# Altium footprint library LIB.PcbLib: 10 footprints
Each footprint in its own frame and in the unit in brackets; x right, y up, seen from the top. Pads: shape width x height; smd on the part's side, far side on the other; paste and mask are expansions set on the pad; w line width, h text height; cw(c..) or ccw(c..) is an arc to the next point about the centre after c.
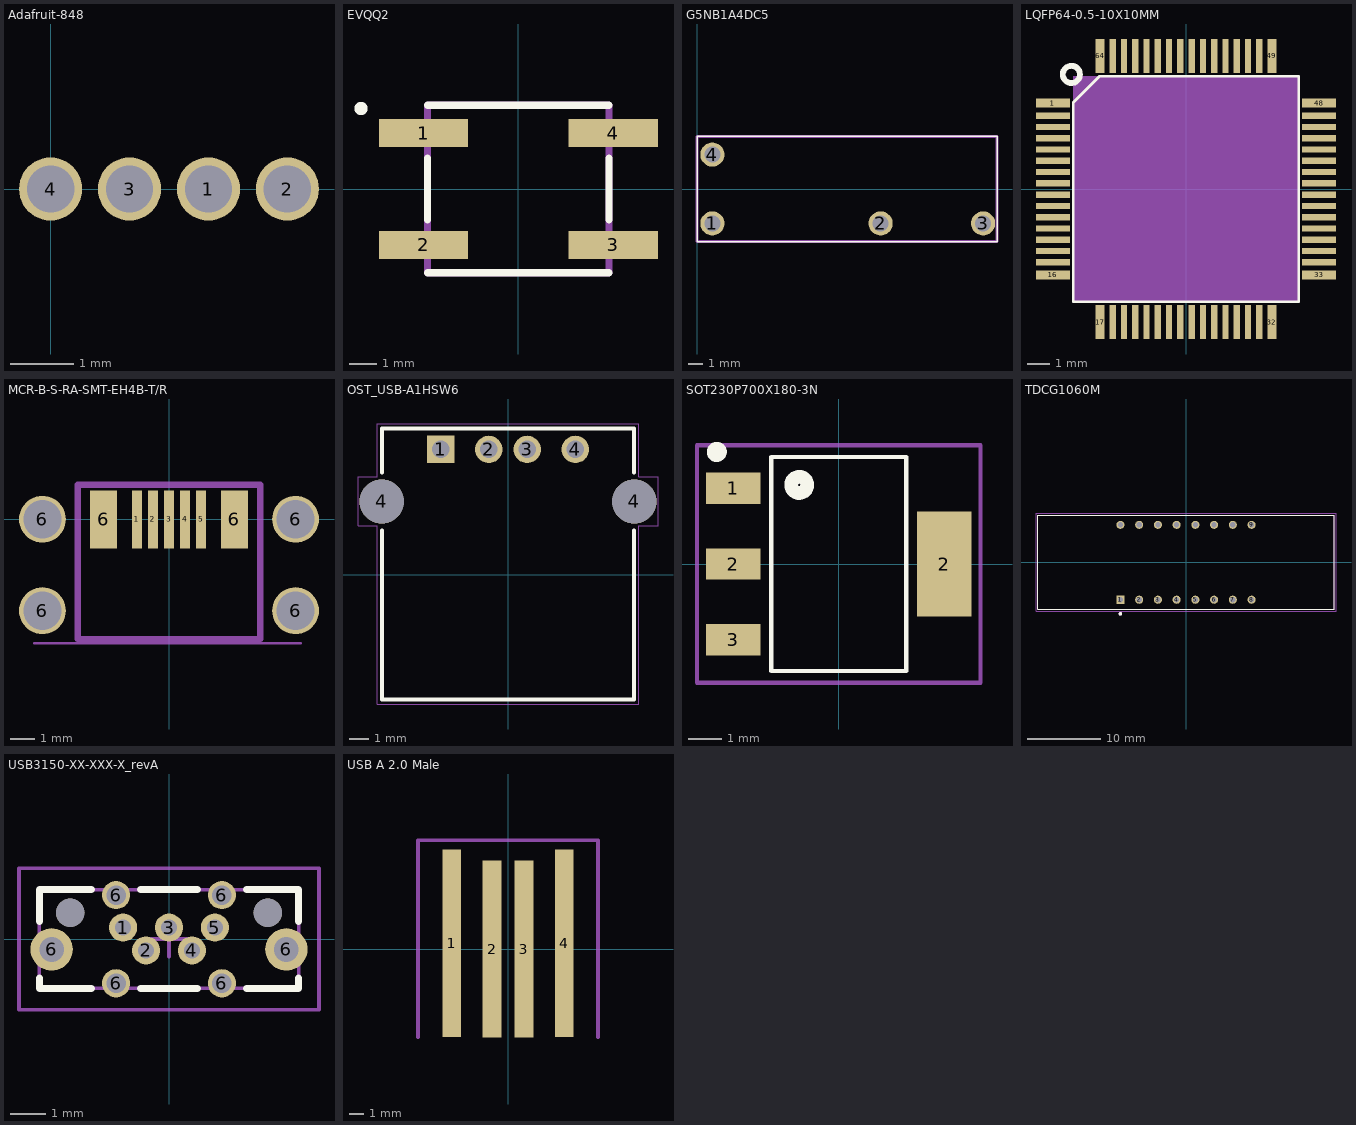
[diagram p0: the footprints below, top view; thin cyan lines are the x and y axes]

## Adafruit-848 [mm]
pads (4):
  round 1 hole 0.75: 1(2.5,0) 2(3.75,0) 3(1.25,0) 4(0,0)

## EVQQ2 [mm]
pads (4):
  rect 3.2x1 smd: 1(-3.4,2) 2(-3.4,-2) 3(3.4,-2) 4(3.4,2)
Top Overlay:
  circle w0.254: c-5.636,2.883 r0.111
  lines w0.254: -3.25,-3 3.25,-3 ; -3.25,-1.1 -3.25,1.1 ; -3.25,3 3.25,3 ; 3.25,-1.1 3.25,1.1
Mechanical 15:
  lines w0.254: -3.25,-3 3.25,-3 3.25,3 -3.25,3 -3.25,-3

## G5NB1A4DC5 [mm]
pads (4):
  round 1.65 hole 1.1: 1(1.05,-2.35) 2(12.55,-2.35) 3(19.55,-2.35) 4(1.05,2.35)
Top Overlay:
  lines w0.1: 0,-3.6 0,3.6 20.5,3.6 20.5,-3.6 0,-3.6
Mechanical 15:
  lines w0.2: 0,-3.6 0,3.6 20.5,3.6 20.5,-3.6 0,-3.6
3D body "G5NB-1A-E-DC5.stp": height 15, standoff -5, extent 0.037,-3.644 20.537,3.556

## LQFP64-0.5-10X10MM [mm]
pads (64):
  rect 1.5x0.4 smd: 1(-5.9,3.81) 16(-5.9,-3.81) 33(5.9,-3.81) 48(5.9,3.81)
  rect 1.5x0.28 smd: 2(-5.9,3.25) 3(-5.9,2.75) 4(-5.9,2.25) 5(-5.9,1.75) 6(-5.9,1.25) 7(-5.9,0.75) 8(-5.9,0.25) 9(-5.9,-0.25) 10(-5.9,-0.75) 11(-5.9,-1.25) 12(-5.9,-1.75) 13(-5.9,-2.25) 14(-5.9,-2.75) 15(-5.9,-3.25) 34(5.9,-3.25) 35(5.9,-2.75) 36(5.9,-2.25) 37(5.9,-1.75) 38(5.9,-1.25) 39(5.9,-0.75) 40(5.9,-0.25) 41(5.9,0.25) 42(5.9,0.75) 43(5.9,1.25) 44(5.9,1.75) 45(5.9,2.25) 46(5.9,2.75) 47(5.9,3.25)
  rect 0.4x1.5 smd: 17(-3.81,-5.9) 32(3.81,-5.9) 49(3.81,5.9) 64(-3.81,5.9)
  rect 0.28x1.5 smd: 18(-3.25,-5.9) 19(-2.75,-5.9) 20(-2.25,-5.9) 21(-1.75,-5.9) 22(-1.25,-5.9) 23(-0.75,-5.9) 24(-0.25,-5.9) 25(0.25,-5.9) 26(0.75,-5.9) 27(1.25,-5.9) 28(1.75,-5.9) 29(2.25,-5.9) 30(2.75,-5.9) 31(3.25,-5.9) 50(3.25,5.9) 51(2.75,5.9) 52(2.25,5.9) 53(1.75,5.9) 54(1.25,5.9) 55(0.75,5.9) 56(0.25,5.9) 57(-0.25,5.9) 58(-0.75,5.9) 59(-1.25,5.9) 60(-1.75,5.9) 61(-2.25,5.9) 62(-2.75,5.9) 63(-3.25,5.9)
Top Overlay:
  circle w0.254: c-5.08,5.08 r0.381
  lines w0.127: -5,-5 5,-5 5,5 -3.842,5 -5,3.842 -5,-5
Mechanical 15:
  region: 5,-5.003 -5.003,-5.003 -5.003,5 5,5
3D body "STM32F446RET6--3DModel-STEP-56544.STEP": height 1.56, standoff -0.04, extent -6,-6 6,6

## MCR-B-S-RA-SMT-EH4B-T/R [mm]
pads (11):
  rect 0.4x2.35 smd: 1(-1.3,0) 2(-0.65,0) 3(0,0) 4(0.65,0) 5(1.3,0)
  round 1.9 hole 1.55: 6(-5.125,-3.7) 6(-5.125,0) 6(5.125,-3.7) 6(5.125,0)
  rect 1.1x2.35 smd: 6(-2.65,0) 6(2.65,0)
Mechanical 1:
  lines w0.1: -5.461,-5.02 5.334,-5.02
  lines w0.254: -3.7,-4.853 -3.7,1.397 3.7,1.397 3.7,-4.853 -3.7,-4.853

## OST_USB-A1HSW6 [mm]
pads (6):
  rect 1.428x1.428 hole 0.92: 1(-3.5,6.51)
  round 1.428 hole 0.92: 2(-1,6.51) 3(1,6.51) 4(3.5,6.51)
  round 2.3 hole 2.3 unplated: 4(-6.57,3.8) 4(6.57,3.8)
Top Overlay:
  lines w0.2: -6.55,2.3 -6.55,-6.5 6.55,-6.5 6.55,2.3 ; -6.55,5.3 -6.55,7.6 6.55,7.6 6.55,5.3
Mechanical 15:
  lines w0.05: -7.8,2.55 -7.8,5.1 -6.8,5.1 -6.8,7.85 6.8,7.85 6.8,5.1 7.8,5.1 7.8,2.55 6.8,2.55 6.8,-6.75 -6.8,-6.75 -6.8,2.55 -7.8,2.55

## SOT230P700X180-3N [mm]
pads (4):
  rect 1.65x0.95 smd: 1(-3.2,2.3) 2(-3.2,0) 3(-3.2,-2.3)
  rect 1.65x3.2 smd: 2(3.2,0)
Top Overlay:
  circle w0.127: c-1.2,2.4 r0.1
  circle w0.406: c-1.2,2.4 r0.25
  circle w0.406: c-3.7,3.4 r0.1
  lines w0.127: -2.05,-3.25 2.05,-3.25 2.05,3.25 -2.05,3.25 -2.05,-3.25
Mechanical 15:
  lines w0.127: -4.3,-3.6 -4.3,3.6 4.3,3.6 4.3,-3.6 -4.3,-3.6

## TDCG1060M [mm]
pads (16):
  rect 1.1x1.1 hole 0.7: 1(-8.89,-5.08)
  round 1.1 hole 0.7: 2(-6.35,-5.08) 3(-3.81,-5.08) 4(-1.27,-5.08) 5(1.27,-5.08) 6(3.81,-5.08) 7(6.35,-5.08) 8(8.89,-5.08) 9(8.89,5.08) 10(6.35,5.08) 11(3.81,5.08) 12(1.27,5.08) 13(-1.27,5.08) 14(-3.81,5.08) 15(-6.35,5.08) 16(-8.89,5.08)
Top Overlay:
  circle w0.24: c-8.9,-7 r0.12
  lines w0.127: -20.1,-6.4 20.1,-6.4 20.1,6.4 -20.1,6.4 -20.1,-6.4
Mechanical 4:
  circle w0.24: c-8.9,-7 r0.12
  circle w0.24: c-8.9,-7 r0.12
  lines w0.127: -20.1,-6.4 20.1,-6.4 ; -20.1,-6.4 -20.1,6.4 ; -20.1,-6.4 20.1,-6.4 ; -20.1,-6.4 -20.1,6.4 ; -20.1,6.4 20.1,6.4 ; -20.1,6.4 20.1,6.4 ; 20.1,-6.4 20.1,6.4 ; 20.1,-6.4 20.1,6.4
Mechanical 16:
  lines w0.05: -20.35,-6.65 -20.35,6.65 20.35,6.65 20.35,-6.65 -20.35,-6.65
3D body "TDCG1060M--3DModel-STEP-56544.STEP": height 7, standoff -3.5, extent -20.1,-6.4 20.1,6.4

## USB3150-XX-XXX-X_revA [mm] "Micro USB Plug, Type B, Through-Hole, Vertical,  with Shell Stakes, with Locating Pegs"
height 7.13
pads (13):
  round 0.8 hole 0.45: 1(-1.3,0.325) 2(-0.65,-0.325) 3(0,0.325) 4(0.65,-0.325) 5(1.3,0.325)
  round 1.2 hole 0.7: 6(-3.325,-0.295) 6(3.325,-0.295)
  round 0.8 hole 0.55: 6(-1.5,-1.255) 6(-1.5,1.245) 6(1.5,-1.255) 6(1.5,1.245)
  round 0.8 hole 0.8 unplated: ""(-2.8,0.745) ""(2.8,0.745)
Top Overlay:
  lines w0.2: -3.675,-1.1 -3.675,-1.4 -2.2,-1.4 ; -3.675,0.5 -3.675,1.4 -2.2,1.4 ; -0.8,-1.4 0.8,-1.4 ; -0.8,1.4 0.8,1.4 ; 2.2,-1.4 3.675,-1.4 3.675,-1.1 ; 2.2,1.4 3.675,1.4 3.675,0.5
Mechanical 13:
  lines w0.1: -3.675,-1.4 3.675,-1.4 3.675,1.4 -3.675,1.4 -3.675,-1.4
Mechanical 15:
  lines w0.1: -0.5,0 0.5,0 ; 0,-0.5 0,0.5 ; -4.25,-2 4.25,-2 4.25,2 -4.25,2 -4.25,-2
3D body "usb3150-30-130-x_reva.step": height 7.19, standoff -1.24, extent -3.675,-1.4 3.675,1.4

## USB A 2.0 Male [mil]
pads (4):
  rect 50x500 smd: 1(-150,15) 4(150,15)
  rect 50x472.44 smd: 2(-42.5,0) 3(42.5,0)
Mechanical 1:
  lines w10: -240,-235 -240,290 ; -238.58,290 238.58,290 ; 240,-235 240,290